# Altium footprint library TOF.PcbLib: 1 footprints
Each footprint in its own frame and in the unit in brackets; x right, y up, seen from the top. Pads: shape width x height; smd on the part's side, far side on the other; paste and mask are expansions set on the pad; w line width, h text height; cw(c..) or ccw(c..) is an arc to the next point about the centre after c.
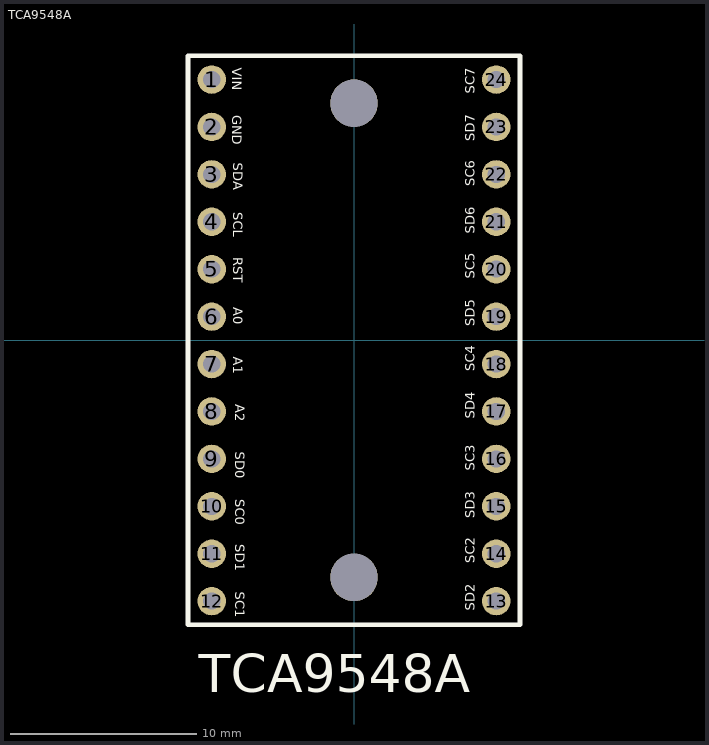
[diagram p0: the footprint, top view; thin cyan lines are the x and y axes]

## TCA9548A [mil]
pads (26):
  round 60 hole 36 paste-99999 mask+2: 1(-300,550) 2(-300,450) 3(-300,350) 4(-300,250) 5(-300,150) 6(-300,50) 7(-300,-50) 8(-300,-150) 9(-300,-250) 10(-300,-350) 11(-300,-450) 12(-300,-550) 13(300,-550) 14(300,-450) 15(300,-350) 16(300,-250) 17(300,-150) 18(300,-50) 19(300,50) 20(300,150) 21(300,250) 22(300,350) 23(300,450) 24(300,550)
  round 100 hole 100 unplated paste-99999: ""(0,-500) ""(0,500)
Top Overlay:
  lines w10: -350,-600 -350,600 350,600 350,-600 -350,-600
  text "SD6" at 255,225 h20
  text "SC6" at 255,325 h20
  text "SD7" at 255,420 h20
  text "SC7" at 255,520 h20
  text "SD4" at 255,-165 h20
  text "SC4" at 255,-65 h20
  text "SD5" at 255,30 h20
  text "SC5" at 255,130 h20
  text "SD3" at 255,-375 h20
  text "SC2" at 255,-470 h20
  text "SD2" at 255,-570 h20
  text "SC3" at 255,-275 h20
  text "SC1" at -250,-530 h20
  text "SD1" at -250,-430 h20
  text "SC0" at -250,-335 h20
  text "SD0" at -250,-235 h20
  text "A2" at -250,-135 h20
  text "A1" at -255,-35 h20
  text "A0" at -255,70 h20
  text "RST" at -255,175 h20
  text "SCL" at -255,270 h20
  text "SDA" at -255,375 h20
  text "GND" at -256.8,475 h20
  text "VIN" at -256.8,575 h20
  text "TCA9548A" at -327,-742 h80